# Altium footprint library cypress.PCBLIB: 24 footprints (part 2 of 2)
Each footprint in its own frame and in the unit in brackets; x right, y up, seen from the top. Pads: shape width x height; smd on the part's side, far side on the other; paste and mask are expansions set on the pad; w line width, h text height; cw(c..) or ccw(c..) is an arc to the next point about the centre after c.
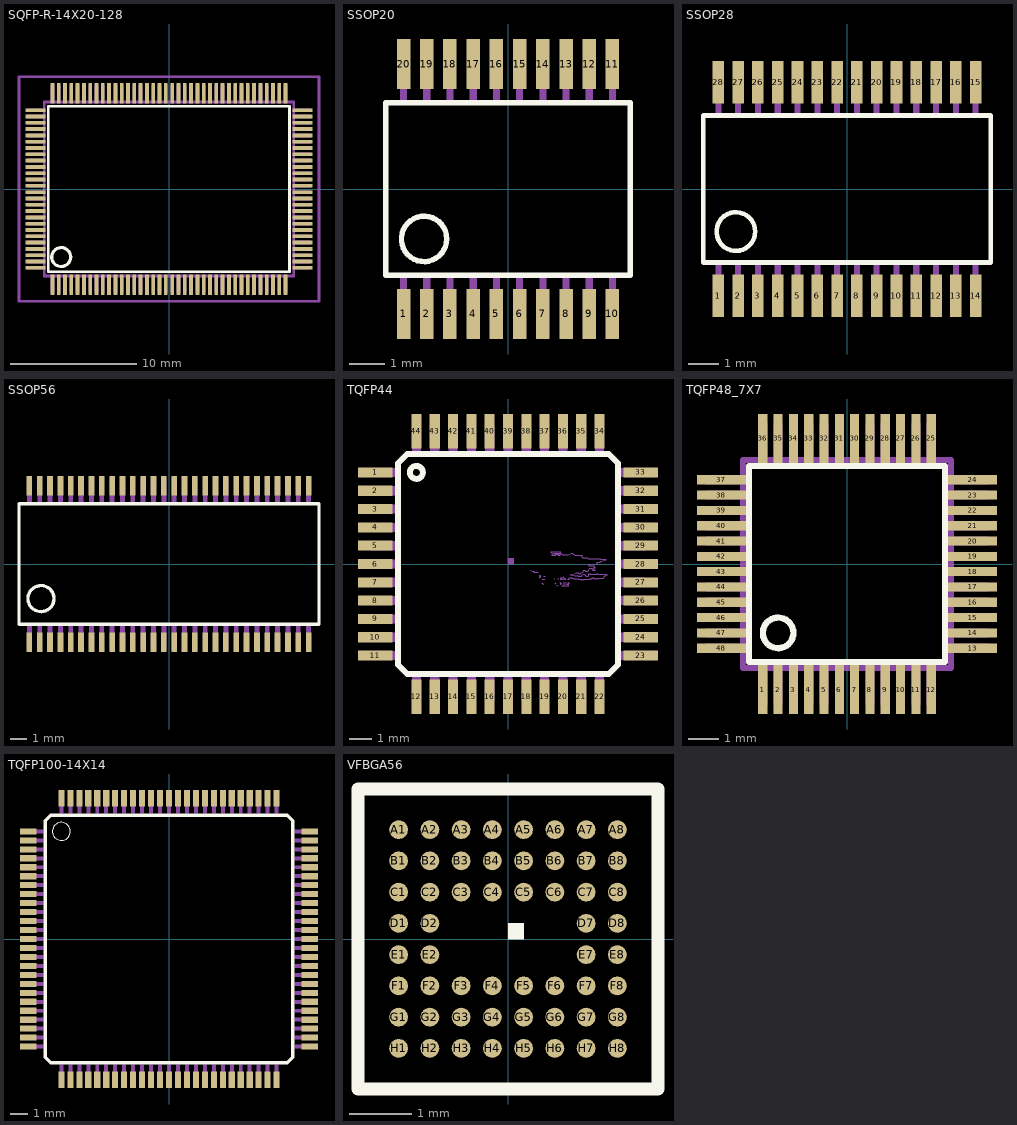
[diagram p1: the footprints below, top view; thin cyan lines are the x and y axes]

## SQFP-R-14X20-128 [mm]
pads (128):
  rect 0.3x1.6 smd: 1(-9.25,-7.6) 2(-8.75,-7.6) 3(-8.25,-7.6) 4(-7.75,-7.6) 5(-7.25,-7.6) 6(-6.75,-7.6) 7(-6.25,-7.6) 8(-5.75,-7.6) 9(-5.25,-7.6) 10(-4.75,-7.6) 11(-4.25,-7.6) 12(-3.75,-7.6) 13(-3.25,-7.6) 14(-2.75,-7.6) 15(-2.25,-7.6) 16(-1.75,-7.6) 17(-1.25,-7.6) 18(-0.75,-7.6) 19(-0.25,-7.6) 20(0.25,-7.6) 21(0.75,-7.6) 22(1.25,-7.6) 23(1.75,-7.6) 24(2.25,-7.6) 25(2.75,-7.6) 26(3.25,-7.6) 27(3.75,-7.6) 28(4.25,-7.6) 29(4.75,-7.6) 30(5.25,-7.6) 31(5.75,-7.6) 32(6.25,-7.6) 33(6.75,-7.6) 34(7.25,-7.6) 35(7.75,-7.6) 36(8.25,-7.6) 37(8.75,-7.6) 38(9.25,-7.6) 65(9.25,7.6) 66(8.75,7.6) 67(8.25,7.6) 68(7.75,7.6) 69(7.25,7.6) 70(6.75,7.6) 71(6.25,7.6) 72(5.75,7.6) 73(5.25,7.6) 74(4.75,7.6) 75(4.25,7.6) 76(3.75,7.6) 77(3.25,7.6) 78(2.75,7.6) 79(2.25,7.6) 80(1.75,7.6) 81(1.25,7.6) 82(0.75,7.6) 83(0.25,7.6) 84(-0.25,7.6) 85(-0.75,7.6) 86(-1.25,7.6) 87(-1.75,7.6) 88(-2.25,7.6) 89(-2.75,7.6) 90(-3.25,7.6) 91(-3.75,7.6) 92(-4.25,7.6) 93(-4.75,7.6) 94(-5.25,7.6) 95(-5.75,7.6) 96(-6.25,7.6) 97(-6.75,7.6) 98(-7.25,7.6) 99(-7.75,7.6) 100(-8.25,7.6) 101(-8.75,7.6) 102(-9.25,7.6)
  rect 1.6x0.3 smd: 39(10.6,-6.25) 40(10.6,-5.75) 41(10.6,-5.25) 42(10.6,-4.75) 43(10.6,-4.25) 44(10.6,-3.75) 45(10.6,-3.25) 46(10.6,-2.75) 47(10.6,-2.25) 48(10.6,-1.75) 49(10.6,-1.25) 50(10.6,-0.75) 51(10.6,-0.25) 52(10.6,0.25) 53(10.6,0.75) 54(10.6,1.25) 55(10.6,1.75) 56(10.6,2.25) 57(10.6,2.75) 58(10.6,3.25) 59(10.6,3.75) 60(10.6,4.25) 61(10.6,4.75) 62(10.6,5.25) 63(10.6,5.75) 64(10.6,6.25) 103(-10.6,6.25) 104(-10.6,5.75) 105(-10.6,5.25) 106(-10.6,4.75) 107(-10.6,4.25) 108(-10.6,3.75) 109(-10.6,3.25) 110(-10.6,2.75) 111(-10.6,2.25) 112(-10.6,1.75) 113(-10.6,1.25) 114(-10.6,0.75) 115(-10.6,0.25) 116(-10.6,-0.25) 117(-10.6,-0.75) 118(-10.6,-1.25) 119(-10.6,-1.75) 120(-10.6,-2.25) 121(-10.6,-2.75) 122(-10.6,-3.25) 123(-10.6,-3.75) 124(-10.6,-4.25) 125(-10.6,-4.75) 126(-10.6,-5.25) 127(-10.6,-5.75) 128(-10.6,-6.25)
Top Overlay:
  circle w0.254: c-8.55,-5.4 r0.75
  lines w0.203: -9.57,-6.56 9.56,-6.56 9.56,6.56 -9.57,6.56 -9.57,-6.56
Mechanical 16:
  rectangle: -9.4,-8.22 -9.1,-6.95
  rectangle: -8.9,-8.22 -8.6,-6.95
  rectangle: -8.4,-8.22 -8.1,-6.95
  rectangle: -7.9,-8.22 -7.6,-6.95
  rectangle: -7.4,-8.22 -7.1,-6.95
  rectangle: -6.9,-8.22 -6.6,-6.95
  rectangle: -6.4,-8.22 -6.1,-6.95
  rectangle: -5.9,-8.22 -5.6,-6.95
  rectangle: -5.4,-8.22 -5.1,-6.95
  rectangle: -4.9,-8.22 -4.6,-6.95
  rectangle: -4.4,-8.22 -4.1,-6.95
  rectangle: -3.9,-8.22 -3.6,-6.95
  rectangle: -3.4,-8.22 -3.1,-6.95
  rectangle: -2.9,-8.22 -2.6,-6.95
  rectangle: -2.4,-8.22 -2.1,-6.95
  rectangle: -1.9,-8.22 -1.6,-6.95
  rectangle: -1.4,-8.22 -1.1,-6.95
  rectangle: -0.9,-8.22 -0.6,-6.95
  rectangle: -0.4,-8.22 -0.1,-6.95
  rectangle: 0.1,-8.22 0.4,-6.95
  rectangle: 0.6,-8.22 0.9,-6.95
  rectangle: 1.1,-8.22 1.4,-6.95
  rectangle: 1.6,-8.22 1.9,-6.95
  rectangle: 2.1,-8.22 2.4,-6.95
  rectangle: 2.6,-8.22 2.9,-6.95
  rectangle: 3.1,-8.22 3.4,-6.95
  rectangle: 3.6,-8.22 3.9,-6.95
  rectangle: 4.1,-8.22 4.4,-6.95
  rectangle: 4.6,-8.22 4.9,-6.95
  rectangle: 5.1,-8.22 5.4,-6.95
  rectangle: 5.6,-8.22 5.9,-6.95
  rectangle: 6.1,-8.22 6.4,-6.95
  rectangle: 6.6,-8.22 6.9,-6.95
  rectangle: 7.1,-8.22 7.4,-6.95
  rectangle: 7.6,-8.22 7.9,-6.95
  rectangle: 8.1,-8.22 8.4,-6.95
  rectangle: 9.95,-6.4 11.22,-6.1
  rectangle: 8.6,-8.22 8.9,-6.95
  rectangle: 9.1,-8.22 9.4,-6.95
  rectangle: 9.95,-5.9 11.22,-5.6
  rectangle: 9.95,-5.4 11.22,-5.1
  rectangle: 9.95,-4.9 11.22,-4.6
  rectangle: 9.95,-4.4 11.22,-4.1
  rectangle: 9.95,-3.9 11.22,-3.6
  rectangle: 9.95,-3.4 11.22,-3.1
  rectangle: 9.95,-2.9 11.22,-2.6
  rectangle: 9.95,-2.4 11.22,-2.1
  rectangle: 9.95,-1.9 11.22,-1.6
  rectangle: 9.95,-1.4 11.22,-1.1
  rectangle: 9.95,-0.9 11.22,-0.6
  rectangle: 9.95,-0.4 11.22,-0.1
  rectangle: 9.95,0.1 11.22,0.4
  rectangle: 9.95,0.6 11.22,0.9
  rectangle: 9.95,1.1 11.22,1.4
  rectangle: 9.95,1.6 11.22,1.9
  rectangle: 9.95,2.1 11.22,2.4
  rectangle: 9.95,2.6 11.22,2.9
  rectangle: 9.95,3.1 11.22,3.4
  rectangle: 9.95,3.6 11.22,3.9
  rectangle: 9.95,4.1 11.22,4.4
  rectangle: 9.95,4.6 11.22,4.9
  rectangle: 9.95,5.1 11.22,5.4
  rectangle: 9.95,5.6 11.22,5.9
  rectangle: 9.95,6.1 11.22,6.4
  rectangle: 9.1,6.95 9.4,8.22
  rectangle: 8.6,6.95 8.9,8.22
  rectangle: 8.1,6.95 8.4,8.22
  rectangle: 7.6,6.95 7.9,8.22
  rectangle: 7.1,6.95 7.4,8.22
  rectangle: 6.6,6.95 6.9,8.22
  rectangle: 6.1,6.95 6.4,8.22
  rectangle: 5.6,6.95 5.9,8.22
  rectangle: 5.1,6.95 5.4,8.22
  rectangle: 4.6,6.95 4.9,8.22
  rectangle: 4.1,6.95 4.4,8.22
  rectangle: 3.6,6.95 3.9,8.22
  rectangle: 3.1,6.95 3.4,8.22
  rectangle: 2.6,6.95 2.9,8.22
  rectangle: 2.1,6.95 2.4,8.22
  rectangle: 1.6,6.95 1.9,8.22
  rectangle: 1.1,6.95 1.4,8.22
  rectangle: 0.6,6.95 0.9,8.22
  rectangle: 0.1,6.95 0.4,8.22
  rectangle: -0.4,6.95 -0.1,8.22
  rectangle: -0.9,6.95 -0.6,8.22
  rectangle: -1.4,6.95 -1.1,8.22
  rectangle: -1.9,6.95 -1.6,8.22
  rectangle: -2.4,6.95 -2.1,8.22
  rectangle: -2.9,6.95 -2.6,8.22
  rectangle: -3.4,6.95 -3.1,8.22
  rectangle: -3.9,6.95 -3.6,8.22
  rectangle: -4.4,6.95 -4.1,8.22
  rectangle: -4.9,6.95 -4.6,8.22
  rectangle: -5.4,6.95 -5.1,8.22
  rectangle: -5.9,6.95 -5.6,8.22
  rectangle: -6.4,6.95 -6.1,8.22
  rectangle: -6.9,6.95 -6.6,8.22
  rectangle: -7.4,6.95 -7.1,8.22
  rectangle: -7.9,6.95 -7.6,8.22
  rectangle: -8.4,6.95 -8.1,8.22
  rectangle: -8.9,6.95 -8.6,8.22
  rectangle: -9.4,6.95 -9.1,8.22
  rectangle: -11.22,6.1 -9.95,6.4
  rectangle: -11.22,5.6 -9.95,5.9
  rectangle: -11.22,5.1 -9.95,5.4
  rectangle: -11.22,4.6 -9.95,4.9
  rectangle: -11.22,4.1 -9.95,4.4
  rectangle: -11.22,3.6 -9.95,3.9
  rectangle: -11.22,3.1 -9.95,3.4
  rectangle: -11.22,2.6 -9.95,2.9
  rectangle: -11.22,2.1 -9.95,2.4
  rectangle: -11.22,1.6 -9.95,1.9
  rectangle: -11.22,1.1 -9.95,1.4
  rectangle: -11.22,0.6 -9.95,0.9
  rectangle: -11.22,0.1 -9.95,0.4
  rectangle: -11.22,-0.4 -9.95,-0.1
  rectangle: -11.22,-0.9 -9.95,-0.6
  rectangle: -11.22,-1.4 -9.95,-1.1
  rectangle: -11.22,-1.9 -9.95,-1.6
  rectangle: -11.22,-2.4 -9.95,-2.1
  rectangle: -11.22,-2.9 -9.95,-2.6
  rectangle: -11.22,-3.4 -9.95,-3.1
  rectangle: -11.22,-3.9 -9.95,-3.6
  rectangle: -11.22,-4.4 -9.95,-4.1
  rectangle: -11.22,-4.9 -9.95,-4.6
  rectangle: -11.22,-5.4 -9.95,-5.1
  rectangle: -11.22,-5.9 -9.95,-5.6
  rectangle: -11.22,-6.4 -9.95,-6.1
  lines w0.203: -9.9,-6.9 9.9,-6.9 9.9,6.9 -9.9,6.9 -9.9,-6.9
Mechanical 27:
  lines w0.2: -11.9,-8.9 -11.9,8.9 11.9,8.9 11.9,-8.9 -11.9,-8.9

## SSOP20 [mm]
pads (20):
  rect 0.38x1.4 smd: 1(-2.925,-3.5) 2(-2.275,-3.5) 3(-1.625,-3.5) 4(-0.975,-3.5) 5(-0.325,-3.5) 6(0.325,-3.5) 7(0.975,-3.5) 8(1.625,-3.5) 9(2.275,-3.5) 10(2.925,-3.5) 11(2.925,3.5) 12(2.275,3.5) 13(1.625,3.5) 14(0.975,3.5) 15(0.325,3.5) 16(-0.325,3.5) 17(-0.975,3.5) 18(-1.625,3.5) 19(-2.275,3.5) 20(-2.925,3.5)
Top Overlay:
  circle w0.152: c-2.349,-1.397 r0.635
  lines w0.152: -3.419,-2.415 3.42,-2.415 3.42,2.415 -3.419,2.415 -3.419,-2.415
Mechanical 16:
  rectangle: -0.425,-4.05 -0.225,-2.475
  rectangle: 0.225,-4.05 0.425,-2.475
  rectangle: -1.075,-4.05 -0.875,-2.475
  rectangle: -1.725,-4.05 -1.525,-2.475
  rectangle: -2.375,-4.05 -2.175,-2.475
  rectangle: -3.025,-4.05 -2.825,-2.475
  rectangle: 0.875,-4.05 1.075,-2.475
  rectangle: 1.525,-4.05 1.725,-2.475
  rectangle: 2.175,-4.05 2.375,-2.475
  rectangle: 2.825,-4.05 3.025,-2.475
  region: 0.425,4.05 0.225,4.05 0.225,2.475 0.425,2.475
  region: -0.225,4.05 -0.425,4.05 -0.425,2.475 -0.225,2.475
  region: 1.075,4.05 0.875,4.05 0.875,2.475 1.075,2.475
  region: 1.725,4.05 1.525,4.05 1.525,2.475 1.725,2.475
  region: 2.375,4.05 2.175,4.05 2.175,2.475 2.375,2.475
  region: 3.025,4.05 2.825,4.05 2.825,2.475 3.025,2.475
  region: -0.875,4.05 -1.075,4.05 -1.075,2.475 -0.875,2.475
  region: -1.525,4.05 -1.725,4.05 -1.725,2.475 -1.525,2.475
  region: -2.175,4.05 -2.375,4.05 -2.375,2.475 -2.175,2.475
  region: -2.825,4.05 -3.025,4.05 -3.025,2.475 -2.825,2.475

## SSOP28 [mm]
pads (28):
  rect 0.38x1.4 smd: 1(-4.225,-3.5) 2(-3.575,-3.5) 3(-2.925,-3.5) 4(-2.275,-3.5) 5(-1.625,-3.5) 6(-0.975,-3.5) 7(-0.325,-3.5) 8(0.325,-3.5) 9(0.975,-3.5) 10(1.625,-3.5) 11(2.275,-3.5) 12(2.925,-3.5) 13(3.575,-3.5) 14(4.225,-3.5) 15(4.225,3.5) 16(3.575,3.5) 17(2.925,3.5) 18(2.275,3.5) 19(1.625,3.5) 20(0.975,3.5) 21(0.325,3.5) 22(-0.325,3.5) 23(-0.975,3.5) 24(-1.625,3.5) 25(-2.275,3.5) 26(-2.925,3.5) 27(-3.575,3.5) 28(-4.225,3.5)
Top Overlay:
  circle w0.152: c-3.649,-1.397 r0.635
  lines w0.152: -4.719,-2.415 4.72,-2.415 4.72,2.415 -4.719,2.415 -4.719,-2.415
Mechanical 16:
  rectangle: -1.725,-4.05 -1.525,-2.475
  rectangle: -1.075,-4.05 -0.875,-2.475
  rectangle: -2.375,-4.05 -2.175,-2.475
  rectangle: -3.025,-4.05 -2.825,-2.475
  rectangle: -3.675,-4.05 -3.475,-2.475
  rectangle: -4.325,-4.05 -4.125,-2.475
  rectangle: -0.425,-4.05 -0.225,-2.475
  rectangle: 0.225,-4.05 0.425,-2.475
  rectangle: 0.875,-4.05 1.075,-2.475
  rectangle: 1.525,-4.05 1.725,-2.475
  region: 4.325,4.05 4.125,4.05 4.125,2.475 4.325,2.475
  region: 3.675,4.05 3.475,4.05 3.475,2.475 3.675,2.475
  rectangle: 4.125,-4.05 4.325,-2.475
  rectangle: 3.475,-4.05 3.675,-2.475
  rectangle: 2.825,-4.05 3.025,-2.475
  rectangle: 2.175,-4.05 2.375,-2.475
  region: 3.025,4.05 2.825,4.05 2.825,2.475 3.025,2.475
  region: 2.375,4.05 2.175,4.05 2.175,2.475 2.375,2.475
  region: 1.725,4.05 1.525,4.05 1.525,2.475 1.725,2.475
  region: 1.075,4.05 0.875,4.05 0.875,2.475 1.075,2.475
  region: 0.425,4.05 0.225,4.05 0.225,2.475 0.425,2.475
  region: -0.225,4.05 -0.425,4.05 -0.425,2.475 -0.225,2.475
  region: -0.875,4.05 -1.075,4.05 -1.075,2.475 -0.875,2.475
  region: -1.525,4.05 -1.725,4.05 -1.725,2.475 -1.525,2.475
  region: -2.175,4.05 -2.375,4.05 -2.375,2.475 -2.175,2.475
  region: -2.825,4.05 -3.025,4.05 -3.025,2.475 -2.825,2.475
  region: -3.475,4.05 -3.675,4.05 -3.675,2.475 -3.475,2.475
  region: -4.125,4.05 -4.325,4.05 -4.325,2.475 -4.125,2.475

## SSOP56 [mm]
pads (56):
  rect 0.35x1.2 smd: 1(-8.572,-4.8) 2(-7.938,-4.8) 3(-7.302,-4.8) 4(-6.667,-4.8) 5(-6.032,-4.8) 6(-5.397,-4.8) 7(-4.763,-4.8) 8(-4.127,-4.8) 9(-3.492,-4.8) 10(-2.857,-4.8) 11(-2.222,-4.8) 12(-1.587,-4.8) 13(-0.953,-4.8) 14(-0.318,-4.8) 15(0.318,-4.8) 16(0.953,-4.8) 17(1.587,-4.8) 18(2.222,-4.8) 19(2.857,-4.8) 20(3.492,-4.8) 21(4.127,-4.8) 22(4.763,-4.8) 23(5.397,-4.8) 24(6.032,-4.8) 25(6.667,-4.8) 26(7.302,-4.8) 27(7.938,-4.8) 28(8.572,-4.8) 29(8.572,4.8) 30(7.938,4.8) 31(7.302,4.8) 32(6.667,4.8) 33(6.032,4.8) 34(5.397,4.8) 35(4.763,4.8) 36(4.127,4.8) 37(3.492,4.8) 38(2.857,4.8) 39(2.222,4.8) 40(1.587,4.8) 41(0.953,4.8) 42(0.318,4.8) 43(-0.318,4.8) 44(-0.953,4.8) 45(-1.587,4.8) 46(-2.222,4.8) 47(-2.857,4.8) 48(-3.492,4.8) 49(-4.127,4.8) 50(-4.763,4.8) 51(-5.397,4.8) 52(-6.032,4.8) 53(-6.667,4.8) 54(-7.302,4.8) 55(-7.938,4.8) 56(-8.572,4.8)
Top Overlay:
  circle w0.203: c-7.86,-2.125 r0.8
  lines w0.203: -9.21,-3.7 9.21,-3.7 9.21,3.7 -9.21,3.7 -9.21,-3.7
Mechanical 16:
  rectangle: -8.723,-5.325 -8.422,-3.8
  rectangle: -8.088,-5.325 -7.787,-3.8
  rectangle: -7.453,-5.325 -7.152,-3.8
  rectangle: -6.818,-5.325 -6.517,-3.8
  rectangle: -6.183,-5.325 -5.882,-3.8
  rectangle: -5.548,-5.325 -5.247,-3.8
  rectangle: -4.913,-5.325 -4.612,-3.8
  rectangle: -4.278,-5.325 -3.977,-3.8
  rectangle: -3.643,-5.325 -3.342,-3.8
  rectangle: -3.008,-5.325 -2.707,-3.8
  rectangle: -2.373,-5.325 -2.072,-3.8
  rectangle: -1.738,-5.325 -1.437,-3.8
  rectangle: -1.103,-5.325 -0.802,-3.8
  rectangle: -0.468,-5.325 -0.167,-3.8
  rectangle: 0.167,-5.325 0.468,-3.8
  rectangle: 0.802,-5.325 1.103,-3.8
  rectangle: 1.437,-5.325 1.738,-3.8
  rectangle: 2.072,-5.325 2.373,-3.8
  rectangle: 2.707,-5.325 3.008,-3.8
  rectangle: 3.342,-5.325 3.643,-3.8
  rectangle: 3.977,-5.325 4.278,-3.8
  rectangle: 4.612,-5.325 4.913,-3.8
  rectangle: 5.247,-5.325 5.548,-3.8
  rectangle: 5.882,-5.325 6.183,-3.8
  rectangle: 6.517,-5.325 6.818,-3.8
  rectangle: 7.152,-5.325 7.453,-3.8
  rectangle: 7.787,-5.325 8.088,-3.8
  rectangle: 8.422,-5.325 8.723,-3.8
  region: 8.723,5.325 8.422,5.325 8.422,3.8 8.723,3.8
  region: 8.088,5.325 7.787,5.325 7.787,3.8 8.088,3.8
  region: 7.453,5.325 7.152,5.325 7.152,3.8 7.453,3.8
  region: 6.818,5.325 6.517,5.325 6.517,3.8 6.818,3.8
  region: 6.183,5.325 5.882,5.325 5.882,3.8 6.183,3.8
  region: 5.548,5.325 5.247,5.325 5.247,3.8 5.548,3.8
  region: 4.913,5.325 4.612,5.325 4.612,3.8 4.913,3.8
  region: 4.278,5.325 3.977,5.325 3.977,3.8 4.278,3.8
  region: 3.643,5.325 3.342,5.325 3.342,3.8 3.643,3.8
  region: 3.008,5.325 2.707,5.325 2.707,3.8 3.008,3.8
  region: 2.373,5.325 2.072,5.325 2.072,3.8 2.373,3.8
  region: 1.738,5.325 1.437,5.325 1.437,3.8 1.738,3.8
  region: 1.103,5.325 0.802,5.325 0.802,3.8 1.103,3.8
  region: 0.468,5.325 0.167,5.325 0.167,3.8 0.468,3.8
  region: -0.167,5.325 -0.468,5.325 -0.468,3.8 -0.167,3.8
  region: -0.802,5.325 -1.103,5.325 -1.103,3.8 -0.802,3.8
  region: -1.437,5.325 -1.738,5.325 -1.738,3.8 -1.437,3.8
  region: -2.072,5.325 -2.373,5.325 -2.373,3.8 -2.072,3.8
  region: -2.707,5.325 -3.008,5.325 -3.008,3.8 -2.707,3.8
  region: -3.342,5.325 -3.643,5.325 -3.643,3.8 -3.342,3.8
  region: -3.977,5.325 -4.278,5.325 -4.278,3.8 -3.977,3.8
  region: -4.612,5.325 -4.913,5.325 -4.913,3.8 -4.612,3.8
  region: -5.247,5.325 -5.548,5.325 -5.548,3.8 -5.247,3.8
  region: -5.882,5.325 -6.183,5.325 -6.183,3.8 -5.882,3.8
  region: -6.517,5.325 -6.818,5.325 -6.818,3.8 -6.517,3.8
  region: -7.152,5.325 -7.453,5.325 -7.453,3.8 -7.152,3.8
  region: -7.787,5.325 -8.088,5.325 -8.088,3.8 -7.787,3.8
  region: -8.422,5.325 -8.723,5.325 -8.723,3.8 -8.422,3.8

## TQFP44 [mm]
pads (44):
  rect 1.5x0.44 smd: 1(-5.8,4) 2(-5.8,3.2) 3(-5.8,2.4) 4(-5.8,1.6) 5(-5.8,0.8) 6(-5.8,0) 7(-5.8,-0.8) 8(-5.8,-1.6) 9(-5.8,-2.4) 10(-5.8,-3.2) 11(-5.8,-4) 23(5.8,-4) 24(5.8,-3.2) 25(5.8,-2.4) 26(5.8,-1.6) 27(5.8,-0.8) 28(5.8,0) 29(5.8,0.8) 30(5.8,1.6) 31(5.8,2.4) 32(5.8,3.2) 33(5.8,4)
  rect 0.44x1.5 smd: 12(-4,-5.8) 13(-3.2,-5.8) 14(-2.4,-5.8) 15(-1.6,-5.8) 16(-0.8,-5.8) 17(0,-5.8) 18(0.8,-5.8) 19(1.6,-5.8) 20(2.4,-5.8) 21(3.2,-5.8) 22(4,-5.8) 34(4,5.8) 35(3.2,5.8) 36(2.4,5.8) 37(1.6,5.8) 38(0.8,5.8) 39(0,5.8) 40(-0.8,5.8) 41(-1.6,5.8) 42(-2.4,5.8) 43(-3.2,5.8) 44(-4,5.8)
Top Overlay:
  circle w0.254: c-4,4 r0.283
  lines w0.254: -4.8,-4.4 -4.4,-4.8 4.4,-4.8 4.8,-4.4 4.8,4.4 4.4,4.8 -4.4,4.8 -4.8,4.4 -4.8,-4.4
Mechanical 16:
  drawing of 208 lines, arcs and shapes, not listed

## TQFP48_7X7 [mm]
pads (48):
  rect 0.3x1.6 smd: 1(-2.75,-4.1) 2(-2.25,-4.1) 3(-1.75,-4.1) 4(-1.25,-4.1) 5(-0.75,-4.1) 6(-0.25,-4.1) 7(0.25,-4.1) 8(0.75,-4.1) 9(1.25,-4.1) 10(1.75,-4.1) 11(2.25,-4.1) 12(2.75,-4.1) 25(2.75,4.1) 26(2.25,4.1) 27(1.75,4.1) 28(1.25,4.1) 29(0.75,4.1) 30(0.25,4.1) 31(-0.25,4.1) 32(-0.75,4.1) 33(-1.25,4.1) 34(-1.75,4.1) 35(-2.25,4.1) 36(-2.75,4.1)
  rect 1.6x0.3 smd: 13(4.1,-2.75) 14(4.1,-2.25) 15(4.1,-1.75) 16(4.1,-1.25) 17(4.1,-0.75) 18(4.1,-0.25) 19(4.1,0.25) 20(4.1,0.75) 21(4.1,1.25) 22(4.1,1.75) 23(4.1,2.25) 24(4.1,2.75) 37(-4.1,2.75) 38(-4.1,2.25) 39(-4.1,1.75) 40(-4.1,1.25) 41(-4.1,0.75) 42(-4.1,0.25) 43(-4.1,-0.25) 44(-4.1,-0.75) 45(-4.1,-1.25) 46(-4.1,-1.75) 47(-4.1,-2.25) 48(-4.1,-2.75)
Top Overlay:
  circle w0.203: c-2.25,-2.25 r0.5
  lines w0.203: -3.2,-3.2 3.2,-3.2 3.2,3.2 -3.2,3.2 -3.2,-3.2
Mechanical 16:
  rectangle: -2.9,-4.6 -2.6,-3.45
  rectangle: -2.4,-4.6 -2.1,-3.45
  rectangle: -1.9,-4.6 -1.6,-3.45
  rectangle: -1.4,-4.6 -1.1,-3.45
  rectangle: -0.9,-4.6 -0.6,-3.45
  rectangle: -0.4,-4.6 -0.1,-3.45
  rectangle: 0.1,-4.6 0.4,-3.45
  rectangle: 0.6,-4.6 0.9,-3.45
  rectangle: 1.1,-4.6 1.4,-3.45
  rectangle: 1.6,-4.6 1.9,-3.45
  rectangle: 2.1,-4.6 2.4,-3.45
  rectangle: 2.6,-4.6 2.9,-3.45
  rectangle: 3.45,-2.9 4.6,-2.6
  rectangle: 3.45,-2.4 4.6,-2.1
  rectangle: 3.45,-1.9 4.6,-1.6
  rectangle: 3.45,-1.4 4.6,-1.1
  rectangle: 3.45,-0.9 4.6,-0.6
  rectangle: 3.45,-0.4 4.6,-0.1
  rectangle: 3.45,0.1 4.6,0.4
  rectangle: 3.45,0.6 4.6,0.9
  rectangle: 3.45,1.1 4.6,1.4
  rectangle: 3.45,1.6 4.6,1.9
  rectangle: 3.45,2.1 4.6,2.4
  rectangle: 3.45,2.6 4.6,2.9
  rectangle: 2.6,3.45 2.9,4.6
  rectangle: 2.1,3.45 2.4,4.6
  rectangle: 1.6,3.45 1.9,4.6
  rectangle: 1.1,3.45 1.4,4.6
  rectangle: 0.6,3.45 0.9,4.6
  rectangle: 0.1,3.45 0.4,4.6
  rectangle: -0.4,3.45 -0.1,4.6
  rectangle: -0.9,3.45 -0.6,4.6
  rectangle: -1.4,3.45 -1.1,4.6
  rectangle: -1.9,3.45 -1.6,4.6
  rectangle: -2.4,3.45 -2.1,4.6
  rectangle: -2.9,3.45 -2.6,4.6
  rectangle: -4.6,2.6 -3.45,2.9
  rectangle: -4.6,2.1 -3.45,2.4
  rectangle: -4.6,1.6 -3.45,1.9
  rectangle: -4.6,1.1 -3.45,1.4
  rectangle: -4.6,0.6 -3.45,0.9
  rectangle: -4.6,0.1 -3.45,0.4
  rectangle: -4.6,-0.4 -3.45,-0.1
  rectangle: -4.6,-0.9 -3.45,-0.6
  rectangle: -4.6,-1.4 -3.45,-1.1
  rectangle: -4.6,-1.9 -3.45,-1.6
  rectangle: -4.6,-2.4 -3.45,-2.1
  rectangle: -4.6,-2.9 -3.45,-2.6
  lines w0.203: -3.4,-3.4 3.4,-3.4 3.4,3.4 -3.4,3.4 -3.4,-3.4

## TQFP100-14X14 [mm]
pads (100):
  rect 0.9x0.34 smd: 1(-7.85,6) 2(-7.85,5.5) 3(-7.85,5) 4(-7.85,4.5) 5(-7.85,4) 6(-7.85,3.5) 7(-7.85,3) 8(-7.85,2.5) 9(-7.85,2) 10(-7.85,1.5) 11(-7.85,1) 12(-7.85,0.5) 13(-7.85,0) 14(-7.85,-0.5) 15(-7.85,-1) 16(-7.85,-1.5) 17(-7.85,-2) 18(-7.85,-2.5) 19(-7.85,-3) 20(-7.85,-3.5) 21(-7.85,-4) 22(-7.85,-4.5) 23(-7.85,-5) 24(-7.85,-5.5) 25(-7.85,-6) 51(7.85,-6) 52(7.85,-5.5) 53(7.85,-5) 54(7.85,-4.5) 55(7.85,-4) 56(7.85,-3.5) 57(7.85,-3) 58(7.85,-2.5) 59(7.85,-2) 60(7.85,-1.5) 61(7.85,-1) 62(7.85,-0.5) 63(7.85,0) 64(7.85,0.5) 65(7.85,1) 66(7.85,1.5) 67(7.85,2) 68(7.85,2.5) 69(7.85,3) 70(7.85,3.5) 71(7.85,4) 72(7.85,4.5) 73(7.85,5) 74(7.85,5.5) 75(7.85,6)
  rect 0.34x0.9 smd: 26(-6,-7.85) 27(-5.5,-7.85) 28(-5,-7.85) 29(-4.5,-7.85) 30(-4,-7.85) 31(-3.5,-7.85) 32(-3,-7.85) 33(-2.5,-7.85) 34(-2,-7.85) 35(-1.5,-7.85) 36(-1,-7.85) 37(-0.5,-7.85) 38(0,-7.85) 39(0.5,-7.85) 40(1,-7.85) 41(1.5,-7.85) 42(2,-7.85) 43(2.5,-7.85) 44(3,-7.85) 45(3.5,-7.85) 46(4,-7.85) 47(4.5,-7.85) 48(5,-7.85) 49(5.5,-7.85) 50(6,-7.85) 76(6,7.85) 77(5.5,7.85) 78(5,7.85) 79(4.5,7.85) 80(4,7.85) 81(3.5,7.85) 82(3,7.85) 83(2.5,7.85) 84(2,7.85) 85(1.5,7.85) 86(1,7.85) 87(0.5,7.85) 88(0,7.85) 89(-0.5,7.85) 90(-1,7.85) 91(-1.5,7.85) 92(-2,7.85) 93(-2.5,7.85) 94(-3,7.85) 95(-3.5,7.85) 96(-4,7.85) 97(-4.5,7.85) 98(-5,7.85) 99(-5.5,7.85) 100(-6,7.85)
Top Overlay:
  circle w0: c-6,6 r0.5
  lines w0.203: -6.898,-6.6 -6.898,6.6 -6.6,6.898 6.6,6.898 6.898,6.6 6.898,-6.6 6.6,-6.898 -6.6,-6.898 -6.898,-6.6
Top Paste:
  rectangle: -8.263,5.837 -7.45,6.163
  rectangle: -8.263,5.338 -7.45,5.662
  rectangle: -8.263,4.837 -7.45,5.163
  rectangle: -8.263,4.338 -7.45,4.662
  rectangle: -8.263,3.837 -7.45,4.163
  rectangle: -8.263,3.338 -7.45,3.662
  rectangle: -8.263,2.837 -7.45,3.163
  rectangle: -8.263,2.338 -7.45,2.662
  rectangle: -8.263,1.837 -7.45,2.163
  rectangle: -8.263,1.338 -7.45,1.662
  rectangle: -8.263,0.837 -7.45,1.163
  rectangle: -8.263,0.338 -7.45,0.662
  rectangle: -8.263,-0.163 -7.45,0.163
  rectangle: -8.263,-0.662 -7.45,-0.338
  rectangle: -8.263,-1.163 -7.45,-0.837
  rectangle: -8.263,-1.662 -7.45,-1.338
  rectangle: -8.263,-2.163 -7.45,-1.837
  rectangle: -8.263,-2.662 -7.45,-2.338
  rectangle: -8.263,-3.163 -7.45,-2.837
  rectangle: -8.263,-3.662 -7.45,-3.338
  rectangle: -8.263,-4.163 -7.45,-3.837
  rectangle: -8.263,-4.662 -7.45,-4.338
  rectangle: -8.263,-5.163 -7.45,-4.837
  rectangle: -8.263,-5.662 -7.45,-5.338
  rectangle: -8.263,-6.163 -7.45,-5.837
  region: -5.837,-8.262 -5.837,-7.45 -6.163,-7.45 -6.163,-8.262
  region: -5.337,-8.262 -5.337,-7.45 -5.663,-7.45 -5.663,-8.262
  region: -4.837,-8.262 -4.837,-7.45 -5.163,-7.45 -5.163,-8.262
  region: -4.337,-8.262 -4.337,-7.45 -4.663,-7.45 -4.663,-8.262
  region: -3.837,-8.262 -3.837,-7.45 -4.163,-7.45 -4.163,-8.262
  region: -3.337,-8.262 -3.337,-7.45 -3.663,-7.45 -3.663,-8.262
  region: -2.837,-8.262 -2.837,-7.45 -3.163,-7.45 -3.163,-8.262
  region: -2.337,-8.262 -2.337,-7.45 -2.663,-7.45 -2.663,-8.262
  region: -1.837,-8.262 -1.837,-7.45 -2.163,-7.45 -2.163,-8.262
  region: -1.337,-8.262 -1.337,-7.45 -1.663,-7.45 -1.663,-8.262
  region: -0.837,-8.262 -0.837,-7.45 -1.163,-7.45 -1.163,-8.262
  region: -0.337,-8.262 -0.337,-7.45 -0.663,-7.45 -0.663,-8.262
  region: 0.163,-8.262 0.163,-7.45 -0.163,-7.45 -0.163,-8.262
  region: 0.663,-8.262 0.663,-7.45 0.337,-7.45 0.337,-8.262
  region: 1.163,-8.262 1.163,-7.45 0.837,-7.45 0.837,-8.262
  region: 1.663,-8.262 1.663,-7.45 1.337,-7.45 1.337,-8.262
  region: 2.163,-8.262 2.163,-7.45 1.837,-7.45 1.837,-8.262
  region: 2.663,-8.262 2.663,-7.45 2.337,-7.45 2.337,-8.262
  region: 3.163,-8.262 3.163,-7.45 2.837,-7.45 2.837,-8.262
  region: 3.663,-8.262 3.663,-7.45 3.337,-7.45 3.337,-8.262
  region: 4.163,-8.262 4.163,-7.45 3.837,-7.45 3.837,-8.262
  region: 4.663,-8.262 4.663,-7.45 4.337,-7.45 4.337,-8.262
  region: 5.163,-8.262 5.163,-7.45 4.837,-7.45 4.837,-8.262
  region: 5.663,-8.262 5.663,-7.45 5.337,-7.45 5.337,-8.262
  region: 6.163,-8.262 6.163,-7.45 5.837,-7.45 5.837,-8.262
  region: 8.263,-5.837 7.45,-5.837 7.45,-6.163 8.263,-6.163
  region: 8.263,-5.338 7.45,-5.338 7.45,-5.662 8.263,-5.662
  region: 8.263,-4.837 7.45,-4.837 7.45,-5.163 8.263,-5.163
  region: 8.263,-4.338 7.45,-4.338 7.45,-4.662 8.263,-4.662
  region: 8.263,-3.837 7.45,-3.837 7.45,-4.163 8.263,-4.163
  region: 8.263,-3.338 7.45,-3.338 7.45,-3.662 8.263,-3.662
  region: 8.263,-2.837 7.45,-2.837 7.45,-3.163 8.263,-3.163
  region: 8.263,-2.338 7.45,-2.338 7.45,-2.662 8.263,-2.662
  region: 8.263,-1.837 7.45,-1.837 7.45,-2.163 8.263,-2.163
  region: 8.263,-1.338 7.45,-1.338 7.45,-1.662 8.263,-1.662
  region: 8.263,-0.837 7.45,-0.837 7.45,-1.163 8.263,-1.163
  region: 8.263,-0.338 7.45,-0.338 7.45,-0.662 8.263,-0.662
  region: 8.263,0.163 7.45,0.163 7.45,-0.163 8.263,-0.163
  region: 8.263,0.662 7.45,0.662 7.45,0.338 8.263,0.338
  region: 8.263,1.163 7.45,1.163 7.45,0.837 8.263,0.837
  region: 8.263,1.662 7.45,1.662 7.45,1.338 8.263,1.338
  region: 8.263,2.163 7.45,2.163 7.45,1.837 8.263,1.837
  region: 8.263,2.662 7.45,2.662 7.45,2.338 8.263,2.338
  region: 8.263,3.163 7.45,3.163 7.45,2.837 8.263,2.837
  region: 8.263,3.662 7.45,3.662 7.45,3.338 8.263,3.338
  region: 8.263,4.163 7.45,4.163 7.45,3.837 8.263,3.837
  region: 8.263,4.662 7.45,4.662 7.45,4.338 8.263,4.338
  region: 8.263,5.163 7.45,5.163 7.45,4.837 8.263,4.837
  region: 8.263,5.662 7.45,5.662 7.45,5.338 8.263,5.338
  region: 8.263,6.163 7.45,6.163 7.45,5.837 8.263,5.837
  region: 5.837,8.262 5.837,7.45 6.163,7.45 6.163,8.262
  region: 5.337,8.262 5.337,7.45 5.663,7.45 5.663,8.262
  region: 4.837,8.262 4.837,7.45 5.163,7.45 5.163,8.262
  region: 4.337,8.262 4.337,7.45 4.663,7.45 4.663,8.262
  region: 3.837,8.262 3.837,7.45 4.163,7.45 4.163,8.262
  region: 3.337,8.262 3.337,7.45 3.663,7.45 3.663,8.262
  region: 2.837,8.262 2.837,7.45 3.163,7.45 3.163,8.262
  region: 2.337,8.262 2.337,7.45 2.663,7.45 2.663,8.262
  region: 1.837,8.262 1.837,7.45 2.163,7.45 2.163,8.262
  region: 1.337,8.262 1.337,7.45 1.663,7.45 1.663,8.262
  region: 0.837,8.262 0.837,7.45 1.163,7.45 1.163,8.262
  region: 0.337,8.262 0.337,7.45 0.663,7.45 0.663,8.262
  region: -0.163,8.262 -0.163,7.45 0.163,7.45 0.163,8.262
  region: -0.663,8.262 -0.663,7.45 -0.337,7.45 -0.337,8.262
  region: -1.163,8.262 -1.163,7.45 -0.837,7.45 -0.837,8.262
  region: -1.663,8.262 -1.663,7.45 -1.337,7.45 -1.337,8.262
  region: -2.163,8.262 -2.163,7.45 -1.837,7.45 -1.837,8.262
  region: -2.663,8.262 -2.663,7.45 -2.337,7.45 -2.337,8.262
  region: -3.163,8.262 -3.163,7.45 -2.837,7.45 -2.837,8.262
  region: -3.663,8.262 -3.663,7.45 -3.337,7.45 -3.337,8.262
  region: -4.163,8.262 -4.163,7.45 -3.837,7.45 -3.837,8.262
  region: -4.663,8.262 -4.663,7.45 -4.337,7.45 -4.337,8.262
  region: -5.163,8.262 -5.163,7.45 -4.837,7.45 -4.837,8.262
  region: -5.663,8.262 -5.663,7.45 -5.337,7.45 -5.337,8.262
  region: -6.163,8.262 -6.163,7.45 -5.837,7.45 -5.837,8.262
Top Solder:
  rectangle: -8.362,5.8 -7.35,6.2
  rectangle: -8.362,5.3 -7.35,5.7
  rectangle: -8.362,4.8 -7.35,5.2
  rectangle: -8.362,4.3 -7.35,4.7
  rectangle: -8.362,3.8 -7.35,4.2
  rectangle: -8.362,3.3 -7.35,3.7
  rectangle: -8.362,2.8 -7.35,3.2
  rectangle: -8.362,2.3 -7.35,2.7
  rectangle: -8.362,1.8 -7.35,2.2
  rectangle: -8.362,1.3 -7.35,1.7
  rectangle: -8.362,0.8 -7.35,1.2
  rectangle: -8.362,0.3 -7.35,0.7
  rectangle: -8.362,-0.2 -7.35,0.2
  rectangle: -8.362,-0.7 -7.35,-0.3
  rectangle: -8.362,-1.2 -7.35,-0.8
  rectangle: -8.362,-1.7 -7.35,-1.3
  rectangle: -8.362,-2.2 -7.35,-1.8
  rectangle: -8.362,-2.7 -7.35,-2.3
  rectangle: -8.362,-3.2 -7.35,-2.8
  rectangle: -8.362,-3.7 -7.35,-3.3
  rectangle: -8.362,-4.2 -7.35,-3.8
  rectangle: -8.362,-4.7 -7.35,-4.3
  rectangle: -8.362,-5.2 -7.35,-4.8
  rectangle: -8.362,-5.7 -7.35,-5.3
  rectangle: -8.362,-6.2 -7.35,-5.8
  region: -5.8,-8.363 -5.8,-7.35 -6.2,-7.35 -6.2,-8.363
  region: -5.3,-8.363 -5.3,-7.35 -5.7,-7.35 -5.7,-8.363
  region: -4.8,-8.363 -4.8,-7.35 -5.2,-7.35 -5.2,-8.363
  region: -4.3,-8.363 -4.3,-7.35 -4.7,-7.35 -4.7,-8.363
  region: -3.8,-8.363 -3.8,-7.35 -4.2,-7.35 -4.2,-8.363
  region: -3.3,-8.363 -3.3,-7.35 -3.7,-7.35 -3.7,-8.363
  region: -2.8,-8.363 -2.8,-7.35 -3.2,-7.35 -3.2,-8.363
  region: -2.3,-8.363 -2.3,-7.35 -2.7,-7.35 -2.7,-8.363
  region: -1.8,-8.363 -1.8,-7.35 -2.2,-7.35 -2.2,-8.363
  region: -1.3,-8.363 -1.3,-7.35 -1.7,-7.35 -1.7,-8.363
  region: -0.8,-8.363 -0.8,-7.35 -1.2,-7.35 -1.2,-8.363
  region: -0.3,-8.363 -0.3,-7.35 -0.7,-7.35 -0.7,-8.363
  region: 0.2,-8.363 0.2,-7.35 -0.2,-7.35 -0.2,-8.363
  region: 0.7,-8.363 0.7,-7.35 0.3,-7.35 0.3,-8.363
  region: 1.2,-8.363 1.2,-7.35 0.8,-7.35 0.8,-8.363
  region: 1.7,-8.363 1.7,-7.35 1.3,-7.35 1.3,-8.363
  region: 2.2,-8.363 2.2,-7.35 1.8,-7.35 1.8,-8.363
  region: 2.7,-8.363 2.7,-7.35 2.3,-7.35 2.3,-8.363
  region: 3.2,-8.363 3.2,-7.35 2.8,-7.35 2.8,-8.363
  region: 3.7,-8.363 3.7,-7.35 3.3,-7.35 3.3,-8.363
  region: 4.2,-8.363 4.2,-7.35 3.8,-7.35 3.8,-8.363
  region: 4.7,-8.363 4.7,-7.35 4.3,-7.35 4.3,-8.363
  region: 5.2,-8.363 5.2,-7.35 4.8,-7.35 4.8,-8.363
  region: 5.7,-8.363 5.7,-7.35 5.3,-7.35 5.3,-8.363
  region: 6.2,-8.363 6.2,-7.35 5.8,-7.35 5.8,-8.363
  region: 8.362,-5.8 7.35,-5.8 7.35,-6.2 8.362,-6.2
  region: 8.362,-5.3 7.35,-5.3 7.35,-5.7 8.362,-5.7
  region: 8.362,-4.8 7.35,-4.8 7.35,-5.2 8.362,-5.2
  region: 8.362,-4.3 7.35,-4.3 7.35,-4.7 8.362,-4.7
  region: 8.362,-3.8 7.35,-3.8 7.35,-4.2 8.362,-4.2
  region: 8.362,-3.3 7.35,-3.3 7.35,-3.7 8.362,-3.7
  region: 8.362,-2.8 7.35,-2.8 7.35,-3.2 8.362,-3.2
  region: 8.362,-2.3 7.35,-2.3 7.35,-2.7 8.362,-2.7
  region: 8.362,-1.8 7.35,-1.8 7.35,-2.2 8.362,-2.2
  region: 8.362,-1.3 7.35,-1.3 7.35,-1.7 8.362,-1.7
  region: 8.362,-0.8 7.35,-0.8 7.35,-1.2 8.362,-1.2
  region: 8.362,-0.3 7.35,-0.3 7.35,-0.7 8.362,-0.7
  region: 8.362,0.2 7.35,0.2 7.35,-0.2 8.362,-0.2
  region: 8.362,0.7 7.35,0.7 7.35,0.3 8.362,0.3
  region: 8.362,1.2 7.35,1.2 7.35,0.8 8.362,0.8
  region: 8.362,1.7 7.35,1.7 7.35,1.3 8.362,1.3
  region: 8.362,2.2 7.35,2.2 7.35,1.8 8.362,1.8
  region: 8.362,2.7 7.35,2.7 7.35,2.3 8.362,2.3
  region: 8.362,3.2 7.35,3.2 7.35,2.8 8.362,2.8
  region: 8.362,3.7 7.35,3.7 7.35,3.3 8.362,3.3
  region: 8.362,4.2 7.35,4.2 7.35,3.8 8.362,3.8
  region: 8.362,4.7 7.35,4.7 7.35,4.3 8.362,4.3
  region: 8.362,5.2 7.35,5.2 7.35,4.8 8.362,4.8
  region: 8.362,5.7 7.35,5.7 7.35,5.3 8.362,5.3
  region: 8.362,6.2 7.35,6.2 7.35,5.8 8.362,5.8
  region: 5.8,8.363 5.8,7.35 6.2,7.35 6.2,8.363
  region: 5.3,8.363 5.3,7.35 5.7,7.35 5.7,8.363
  region: 4.8,8.363 4.8,7.35 5.2,7.35 5.2,8.363
  region: 4.3,8.363 4.3,7.35 4.7,7.35 4.7,8.363
  region: 3.8,8.363 3.8,7.35 4.2,7.35 4.2,8.363
  region: 3.3,8.363 3.3,7.35 3.7,7.35 3.7,8.363
  region: 2.8,8.363 2.8,7.35 3.2,7.35 3.2,8.363
  region: 2.3,8.363 2.3,7.35 2.7,7.35 2.7,8.363
  region: 1.8,8.363 1.8,7.35 2.2,7.35 2.2,8.363
  region: 1.3,8.363 1.3,7.35 1.7,7.35 1.7,8.363
  region: 0.8,8.363 0.8,7.35 1.2,7.35 1.2,8.363
  region: 0.3,8.363 0.3,7.35 0.7,7.35 0.7,8.363
  region: -0.2,8.363 -0.2,7.35 0.2,7.35 0.2,8.363
  region: -0.7,8.363 -0.7,7.35 -0.3,7.35 -0.3,8.363
  region: -1.2,8.363 -1.2,7.35 -0.8,7.35 -0.8,8.363
  region: -1.7,8.363 -1.7,7.35 -1.3,7.35 -1.3,8.363
  region: -2.2,8.363 -2.2,7.35 -1.8,7.35 -1.8,8.363
  region: -2.7,8.363 -2.7,7.35 -2.3,7.35 -2.3,8.363
  region: -3.2,8.363 -3.2,7.35 -2.8,7.35 -2.8,8.363
  region: -3.7,8.363 -3.7,7.35 -3.3,7.35 -3.3,8.363
  region: -4.2,8.363 -4.2,7.35 -3.8,7.35 -3.8,8.363
  region: -4.7,8.363 -4.7,7.35 -4.3,7.35 -4.3,8.363
  region: -5.2,8.363 -5.2,7.35 -4.8,7.35 -4.8,8.363
  region: -5.7,8.363 -5.7,7.35 -5.3,7.35 -5.3,8.363
  region: -6.2,8.363 -6.2,7.35 -5.8,7.35 -5.8,8.363
Mechanical 16:
  rectangle: -8,5.89 -7,6.11
  rectangle: -8,5.39 -7,5.61
  rectangle: -8,4.89 -7,5.11
  rectangle: -8,4.39 -7,4.61
  rectangle: -8,3.89 -7,4.11
  rectangle: -8,3.39 -7,3.61
  rectangle: -8,2.89 -7,3.11
  rectangle: -8,2.39 -7,2.61
  rectangle: -8,1.89 -7,2.11
  rectangle: -8,1.39 -7,1.61
  rectangle: -8,0.89 -7,1.11
  rectangle: -8,0.39 -7,0.61
  rectangle: -8,-0.11 -7,0.11
  rectangle: -8,-0.61 -7,-0.39
  rectangle: -8,-1.11 -7,-0.89
  rectangle: -8,-1.61 -7,-1.39
  rectangle: -8,-2.11 -7,-1.89
  rectangle: -8,-2.61 -7,-2.39
  rectangle: -8,-3.11 -7,-2.89
  rectangle: -8,-3.61 -7,-3.39
  rectangle: -8,-4.11 -7,-3.89
  rectangle: -8,-4.61 -7,-4.39
  rectangle: -8,-5.11 -7,-4.89
  rectangle: -8,-5.61 -7,-5.39
  rectangle: -8,-6.11 -7,-5.89
  region: -5.89,-8 -5.89,-7 -6.11,-7 -6.11,-8
  region: -5.39,-8 -5.39,-7 -5.61,-7 -5.61,-8
  region: -4.89,-8 -4.89,-7 -5.11,-7 -5.11,-8
  region: -4.39,-8 -4.39,-7 -4.61,-7 -4.61,-8
  region: -3.89,-8 -3.89,-7 -4.11,-7 -4.11,-8
  region: -3.39,-8 -3.39,-7 -3.61,-7 -3.61,-8
  region: -2.89,-8 -2.89,-7 -3.11,-7 -3.11,-8
  region: -2.39,-8 -2.39,-7 -2.61,-7 -2.61,-8
  region: -1.89,-8 -1.89,-7 -2.11,-7 -2.11,-8
  region: -1.39,-8 -1.39,-7 -1.61,-7 -1.61,-8
  region: -0.89,-8 -0.89,-7 -1.11,-7 -1.11,-8
  region: -0.39,-8 -0.39,-7 -0.61,-7 -0.61,-8
  region: 0.11,-8 0.11,-7 -0.11,-7 -0.11,-8
  region: 0.61,-8 0.61,-7 0.39,-7 0.39,-8
  region: 1.11,-8 1.11,-7 0.89,-7 0.89,-8
  region: 1.61,-8 1.61,-7 1.39,-7 1.39,-8
  region: 2.11,-8 2.11,-7 1.89,-7 1.89,-8
  region: 2.61,-8 2.61,-7 2.39,-7 2.39,-8
  region: 3.11,-8 3.11,-7 2.89,-7 2.89,-8
  region: 3.61,-8 3.61,-7 3.39,-7 3.39,-8
  region: 4.11,-8 4.11,-7 3.89,-7 3.89,-8
  region: 4.61,-8 4.61,-7 4.39,-7 4.39,-8
  region: 5.11,-8 5.11,-7 4.89,-7 4.89,-8
  region: 5.61,-8 5.61,-7 5.39,-7 5.39,-8
  region: 6.11,-8 6.11,-7 5.89,-7 5.89,-8
  region: 8,-5.89 7,-5.89 7,-6.11 8,-6.11
  region: 8,-5.39 7,-5.39 7,-5.61 8,-5.61
  region: 8,-4.89 7,-4.89 7,-5.11 8,-5.11
  region: 8,-4.39 7,-4.39 7,-4.61 8,-4.61
  region: 8,-3.89 7,-3.89 7,-4.11 8,-4.11
  region: 8,-3.39 7,-3.39 7,-3.61 8,-3.61
  region: 8,-2.89 7,-2.89 7,-3.11 8,-3.11
  region: 8,-2.39 7,-2.39 7,-2.61 8,-2.61
  region: 8,-1.89 7,-1.89 7,-2.11 8,-2.11
  region: 8,-1.39 7,-1.39 7,-1.61 8,-1.61
  region: 8,-0.89 7,-0.89 7,-1.11 8,-1.11
  region: 8,-0.39 7,-0.39 7,-0.61 8,-0.61
  region: 8,0.11 7,0.11 7,-0.11 8,-0.11
  region: 8,0.61 7,0.61 7,0.39 8,0.39
  region: 8,1.11 7,1.11 7,0.89 8,0.89
  region: 8,1.61 7,1.61 7,1.39 8,1.39
  region: 8,2.11 7,2.11 7,1.89 8,1.89
  region: 8,2.61 7,2.61 7,2.39 8,2.39
  region: 8,3.11 7,3.11 7,2.89 8,2.89
  region: 8,3.61 7,3.61 7,3.39 8,3.39
  region: 8,4.11 7,4.11 7,3.89 8,3.89
  region: 8,4.61 7,4.61 7,4.39 8,4.39
  region: 8,5.11 7,5.11 7,4.89 8,4.89
  region: 8,5.61 7,5.61 7,5.39 8,5.39
  region: 8,6.11 7,6.11 7,5.89 8,5.89
  region: 5.89,8 5.89,7 6.11,7 6.11,8
  region: 5.39,8 5.39,7 5.61,7 5.61,8
  region: 4.89,8 4.89,7 5.11,7 5.11,8
  region: 4.39,8 4.39,7 4.61,7 4.61,8
  region: 3.89,8 3.89,7 4.11,7 4.11,8
  region: 3.39,8 3.39,7 3.61,7 3.61,8
  region: 2.89,8 2.89,7 3.11,7 3.11,8
  region: 2.39,8 2.39,7 2.61,7 2.61,8
  region: 1.89,8 1.89,7 2.11,7 2.11,8
  region: 1.39,8 1.39,7 1.61,7 1.61,8
  region: 0.89,8 0.89,7 1.11,7 1.11,8
  region: 0.39,8 0.39,7 0.61,7 0.61,8
  region: -0.11,8 -0.11,7 0.11,7 0.11,8
  region: -0.61,8 -0.61,7 -0.39,7 -0.39,8
  region: -1.11,8 -1.11,7 -0.89,7 -0.89,8
  region: -1.61,8 -1.61,7 -1.39,7 -1.39,8
  region: -2.11,8 -2.11,7 -1.89,7 -1.89,8
  region: -2.61,8 -2.61,7 -2.39,7 -2.39,8
  region: -3.11,8 -3.11,7 -2.89,7 -2.89,8
  region: -3.61,8 -3.61,7 -3.39,7 -3.39,8
  region: -4.11,8 -4.11,7 -3.89,7 -3.89,8
  region: -4.61,8 -4.61,7 -4.39,7 -4.39,8
  region: -5.11,8 -5.11,7 -4.89,7 -4.89,8
  region: -5.61,8 -5.61,7 -5.39,7 -5.39,8
  region: -6.11,8 -6.11,7 -5.89,7 -5.89,8

## VFBGA56 [mm]
pads (56):
  rrect100% 0.3x0.3 smd: A1(-1.75,1.75) A2(-1.25,1.75) A3(-0.75,1.75) A4(-0.25,1.75) A5(0.25,1.75) A6(0.75,1.75) A7(1.25,1.75) A8(1.75,1.75) B1(-1.75,1.25) B2(-1.25,1.25) B3(-0.75,1.25) B4(-0.25,1.25) B5(0.25,1.25) B6(0.75,1.25) B7(1.25,1.25) B8(1.75,1.25) C1(-1.75,0.75) C2(-1.25,0.75) C3(-0.75,0.75) C4(-0.25,0.75) C5(0.25,0.75) C6(0.75,0.75) C7(1.25,0.75) C8(1.75,0.75) D1(-1.75,0.25) D2(-1.25,0.25) D7(1.25,0.25) D8(1.75,0.25) E1(-1.75,-0.25) E2(-1.25,-0.25) E7(1.25,-0.25) E8(1.75,-0.25) F1(-1.75,-0.75) F2(-1.25,-0.75) F3(-0.75,-0.75) F4(-0.25,-0.75) F5(0.25,-0.75) F6(0.75,-0.75) F7(1.25,-0.75) F8(1.75,-0.75) G1(-1.75,-1.25) G2(-1.25,-1.25) G3(-0.75,-1.25) G4(-0.25,-1.25) G5(0.25,-1.25) G6(0.75,-1.25) G7(1.25,-1.25) G8(1.75,-1.25) H1(-1.75,-1.75) H2(-1.25,-1.75) H3(-0.75,-1.75) H4(-0.25,-1.75) H5(0.25,-1.75) H6(0.75,-1.75) H7(1.25,-1.75) H8(1.75,-1.75)
Top Overlay:
  region: 0,0 0.254,0 0.254,0.254 0,0.254
  lines w0.203: -2.4,-2.4 2.4,-2.4 2.4,2.4 -2.4,2.4 -2.4,-2.4
Top Solder:
  circle w0: c-1.75,1.75 r0.15
  circle w0: c-1.75,1.25 r0.15
  circle w0: c-1.75,0.75 r0.15
  circle w0: c-1.75,0.25 r0.15
  circle w0: c-1.75,-0.25 r0.15
  circle w0: c-1.75,-0.75 r0.15
  circle w0: c-1.75,-1.25 r0.15
  circle w0: c-1.75,-1.75 r0.15
  circle w0: c-1.25,1.75 r0.15
  circle w0: c-1.25,1.25 r0.15
  circle w0: c-1.25,0.75 r0.15
  circle w0: c-1.25,0.25 r0.15
  circle w0: c-1.25,-0.25 r0.15
  circle w0: c-1.25,-0.75 r0.15
  circle w0: c-1.25,-1.25 r0.15
  circle w0: c-1.25,-1.75 r0.15
  circle w0: c-0.75,1.75 r0.15
  circle w0: c-0.75,1.25 r0.15
  circle w0: c-0.75,0.75 r0.15
  circle w0: c-0.75,-0.75 r0.15
  circle w0: c-0.75,-1.25 r0.15
  circle w0: c-0.75,-1.75 r0.15
  circle w0: c-0.25,1.75 r0.15
  circle w0: c-0.25,1.25 r0.15
  circle w0: c-0.25,0.75 r0.15
  circle w0: c-0.25,-0.75 r0.15
  circle w0: c-0.25,-1.25 r0.15
  circle w0: c-0.25,-1.75 r0.15
  circle w0: c0.25,1.75 r0.15
  circle w0: c0.25,1.25 r0.15
  circle w0: c0.25,0.75 r0.15
  circle w0: c0.25,-0.75 r0.15
  circle w0: c0.25,-1.25 r0.15
  circle w0: c0.25,-1.75 r0.15
  circle w0: c0.75,1.75 r0.15
  circle w0: c0.75,1.25 r0.15
  circle w0: c0.75,0.75 r0.15
  circle w0: c0.75,-0.75 r0.15
  circle w0: c0.75,-1.25 r0.15
  circle w0: c0.75,-1.75 r0.15
  circle w0: c1.25,1.75 r0.15
  circle w0: c1.25,1.25 r0.15
  circle w0: c1.25,0.75 r0.15
  circle w0: c1.25,0.25 r0.15
  circle w0: c1.25,-0.25 r0.15
  circle w0: c1.25,-0.75 r0.15
  circle w0: c1.25,-1.25 r0.15
  circle w0: c1.25,-1.75 r0.15
  circle w0: c1.75,1.75 r0.15
  circle w0: c1.75,1.25 r0.15
  circle w0: c1.75,0.75 r0.15
  circle w0: c1.75,0.25 r0.15
  circle w0: c1.75,-0.25 r0.15
  circle w0: c1.75,-0.75 r0.15
  circle w0: c1.75,-1.25 r0.15
  circle w0: c1.75,-1.75 r0.15